# EAGLE library part ZIF_24X2 (library IsaacAlonso)
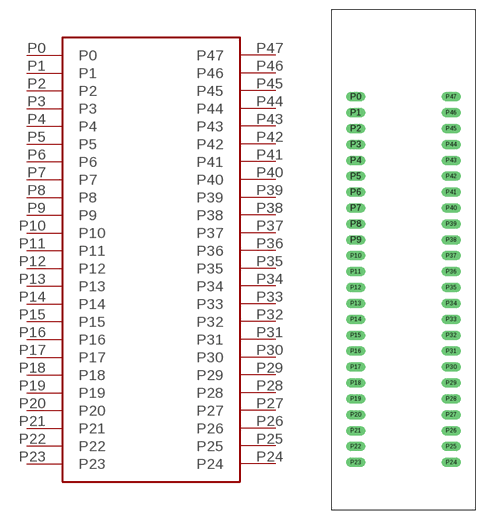
[diagram p4: symbol with the pads of ZIF_24X2; footprint ZIF_24X2]

Designator prefix -

## ZIF_24X2  [ZIF_24X2]
P0  P0
P1  P1
P2  P2
P3  P3
P4  P4
P5  P5
P6  P6
P7  P7
P8  P8
P9  P9
P10  P10
P11  P11
P12  P12
P13  P13
P14  P14
P15  P15
P16  P16
P17  P17
P18  P18
P19  P19
P20  P20
P21  P21
P22  P22
P23  P23
P24  P24
P25  P25
P26  P26
P27  P27
P28  P28
P29  P29
P30  P30
P31  P31
P32  P32
P33  P33
P34  P34
P35  P35
P36  P36
P37  P37
P38  P38
P39  P39
P40  P40
P41  P41
P42  P42
P43  P43
P44  P44
P45  P45
P46  P46
P47  P47

## Footprint ZIF_24X2 (pad centres in mm)
drill 1.02 long: P0 3.81,66.04; P1 3.81,63.5; P2 3.81,60.96; P3 3.81,58.42; P4 3.81,55.88; P5 3.81,53.34; P6 3.81,50.8; P7 3.81,48.26; P8 3.81,45.72; P9 3.81,43.18; P10 3.81,40.64; P11 3.81,38.1; P12 3.81,35.56; P13 3.81,33.02; P14 3.81,30.48; P15 3.81,27.94; P16 3.81,25.4; P17 3.81,22.86; P18 3.81,20.32; P19 3.81,17.78; P20 3.81,15.24; P21 3.81,12.7; P22 3.81,10.16; P23 3.81,7.62; P24 19.05,7.62; P25 19.05,10.16; P26 19.05,12.7; P27 19.05,15.24; P28 19.05,17.78; P29 19.05,20.32; P30 19.05,22.86; P31 19.05,25.4; P32 19.05,27.94; P33 19.05,30.48; P34 19.05,33.02; P35 19.05,35.56; P36 19.05,38.1; P37 19.05,40.64; P38 19.05,43.18; P39 19.05,45.72; P40 19.05,48.26; P41 19.05,50.8; P42 19.05,53.34; P43 19.05,55.88; P44 19.05,58.42; P45 19.05,60.96; P46 19.05,63.5; P47 19.05,66.04